# EAGLE library part TFT_IPS_1.3 (library KitDidatico_library v55)
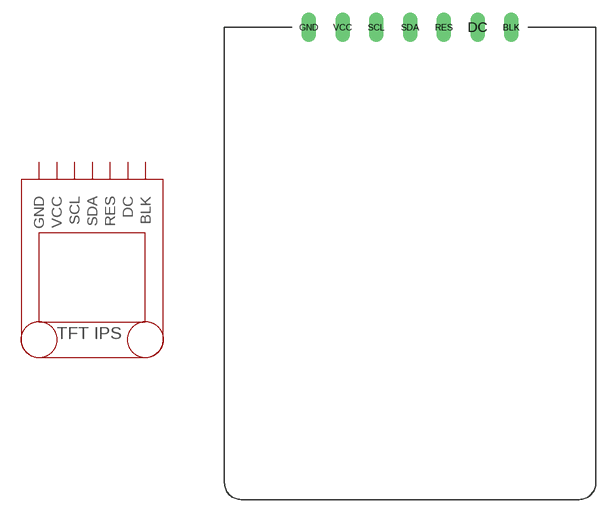
[diagram p0: symbol with the pads of TFT8; footprint TFT8]

Designator prefix DSPLY

## TFT_IPS_1.3  [TFT8]
BLK  BLK
DC  DC
GND  GND
RES  RES
SCL  SCL
SDA  SDA
VCC  VCC  in

## Footprint TFT8 (pad centres in mm)
drill 0.6 long: BLK 7.62,20.32; DC 5.08,20.32; GND -7.62,20.32; RES 2.54,20.32; SCL -2.54,20.32; SDA 0,20.32; VCC -5.08,20.32